# EAGLE library part 7650 (library 7650)
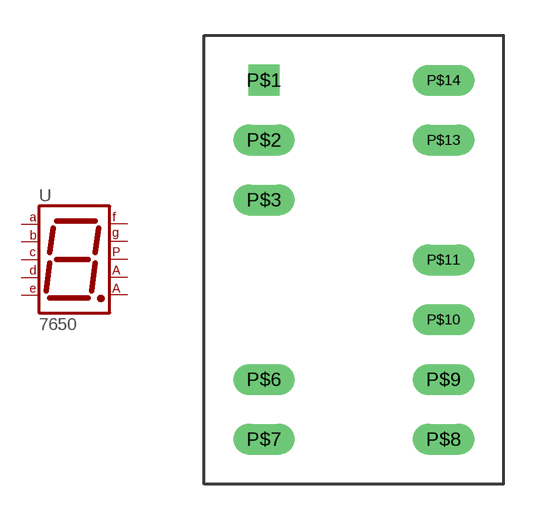
[diagram p0: symbol with the pads of 7650; footprint 7650]

Designator prefix -

## 7650  [7650]
P$1  A  pas
P$2  F  pas
P$3  CA1  pas
P$6  DP  pas
P$7  E  pas
P$8  D  pas
P$10  C  pas
P$11  G  pas
P$13  B  pas
P$14  CA2  pas

## Footprint 7650 (pad centres in mm)
drill 0.8 square: P$1 -3.81,7.62
drill 0.8 long: P$2 -3.81,5.08; P$3 -3.81,2.54; P$6 -3.81,-5.08; P$7 -3.81,-7.62; P$8 3.81,-7.62; P$9 3.81,-5.08; P$10 3.81,-2.54; P$11 3.81,0; P$13 3.81,5.08; P$14 3.81,7.62